# Altium integrated library Resistors.IntLib: 2 symbols
Pins are listed as number, name and electrical type; pins without a type are passive.

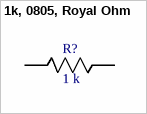
[diagram p0: symbol 1k, 0805, Royal Ohm]

## 1k, 0805, Royal Ohm
designator R?, comment 1 k
ROYAL OHM HP05W3F1001T5E  Rezistor: thick film; vysokovýkonný; SMD; 0805; 1kΩ; 0,3W; ±1%
footprint RESC2112X05N (Chip Resistor, 2-Leads, Body 2.05x1.25mm, IPC Medium Density)
pins: 1, 2


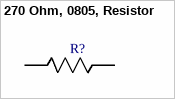
[diagram p1: symbol 270 Ohm, 0805, Resistor]

## 270 Ohm, 0805, Resistor
designator R?, comment 270 Ohm, 0805  (value not drawn)
VISHAY CRCW...BC Thick Film Commodity Resistor
footprint RESC2112X05N (Chip Resistor, 2-Leads, Body 2.05x1.25mm, IPC Medium Density)
pins: 1, 2